# Altium footprint library CCB_Cap.PcbLib: 4 footprints
Each footprint in its own frame and in the unit in brackets; x right, y up, seen from the top. Pads: shape width x height; smd on the part's side, far side on the other; paste and mask are expansions set on the pad; w line width, h text height; cw(c..) or ccw(c..) is an arc to the next point about the centre after c.
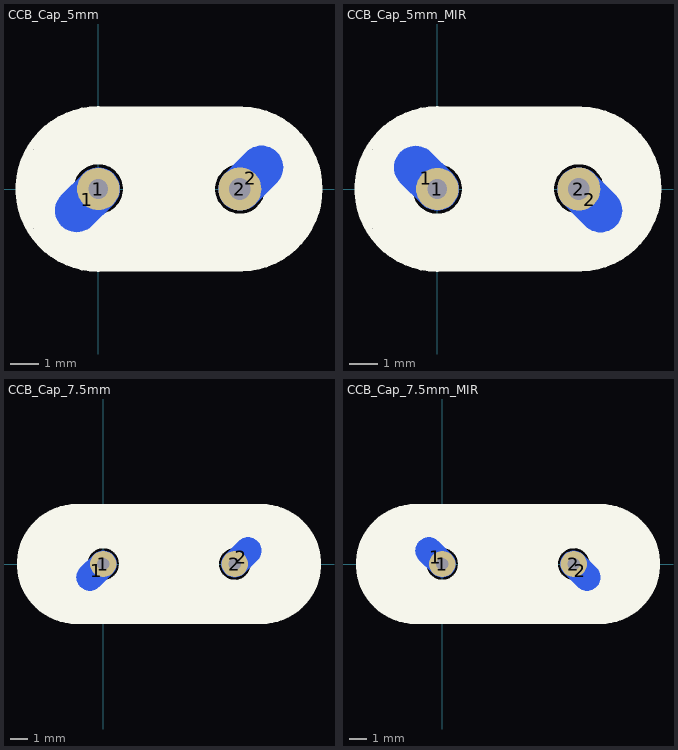
[diagram p0: the footprints below, top view; thin cyan lines are the x and y axes]

## CCB_Cap_5mm [mm]
height 10
pads (4):
  oval 1.524x2.6 smd far side rot 135: 1(-0.381,-0.381) 2(5.385,0.384)
  round 1.5 hole 0.7: 1(0,0)
  round 1.524 hole 0.762: 2(5,0)
Top Overlay:
  circle w0.254: c0,0 r1
  circle w0.254: c5,0 r1
  circle w1.6: c0,0 r1.888
  circle w1.6: c5,0 r1.888
  lines w0.254: 0,-2.8 cw(c0,0) 0,2.8 5.08,2.794 cw(c5,0) 5.08,-2.794 0,-2.8
  lines w2: 0.381,1.905 4.191,1.905 ; 0.635,-1.778 4.445,-1.778

## CCB_Cap_5mm_MIR [mm]
height 10
pads (4):
  oval 1.524x2.6 smd far side rot 45: 1(-0.381,0.381) 2(5.385,-0.384)
  round 1.5 hole 0.7: 1(0,0)
  round 1.524 hole 0.762: 2(5,0)
Top Overlay:
  circle w0.254: c0,0 r1
  circle w0.254: c5,0 r1
  circle w1.6: c0,0 r1.888
  circle w1.6: c5,0 r1.888
  lines w0.254: 0,-2.8 cw(c0,0) 0,2.8 5.08,2.794 cw(c5,0) 5.08,-2.794 0,-2.8
  lines w2: 0.381,1.905 4.191,1.905 ; 0.635,-1.778 4.445,-1.778

## CCB_Cap_7.5mm [mm]
pads (4):
  oval 1.524x2.6 smd far side rot 135: 1(-0.381,-0.381) 2(7.874,0.381)
  round 1.5 hole 0.7: 1(0,0) 2(7.5,0)
Top Overlay:
  circle w0.254: c7.5,0 r1.025
  circle w0.254: c0,0 r1.024
  circle w2.1: c0,0 r2.163
  circle w2.1: c7.5,0 r2.163
  lines w0.254: -1.5,-3.3 cw(c-1.5,0) -1.5,3.3 9,3.3 cw(c9,0) 9,-3.3 -1.5,-3.3
  lines w2: -1.905,2.286 9.144,2.286 ; -1.397,-2.286 9.652,-2.286 ; 3.683,-1.778 3.683,2.032
  lines w2.5: -1.524,2 ccw(c-1.524,0) -1.132,-1.961 ; 8.625,1.961 cw(c9.017,0) 9.017,-2

## CCB_Cap_7.5mm_MIR [mm]
pads (4):
  oval 1.524x2.6 smd far side rot 45: 1(-0.381,0.381) 2(7.874,-0.381)
  round 1.5 hole 0.7: 1(0,0) 2(7.5,0)
Top Overlay:
  circle w2.1: c7.5,0 r2.163
  circle w2.1: c0,0 r2.163
  circle w0.254: c0,0 r1.024
  circle w0.254: c7.5,0 r1.025
  lines w0.254: -1.5,-3.3 cw(c-1.5,0) -1.5,3.3 9,3.3 cw(c9,0) 9,-3.3 -1.5,-3.3
  lines w2: -1.905,2.286 9.144,2.286 ; -1.397,-2.286 9.652,-2.286 ; 3.683,-1.778 3.683,2.032
  lines w2.5: -1.524,2 ccw(c-1.524,0) -1.132,-1.961 ; 8.625,1.961 cw(c9.017,0) 9.017,-2